# Altium footprint library SOT89.PcbLib: 1 footprints
Each footprint in its own frame and in the unit in brackets; x right, y up, seen from the top. Pads: shape width x height; smd on the part's side, far side on the other; paste and mask are expansions set on the pad; w line width, h text height; cw(c..) or ccw(c..) is an arc to the next point about the centre after c.
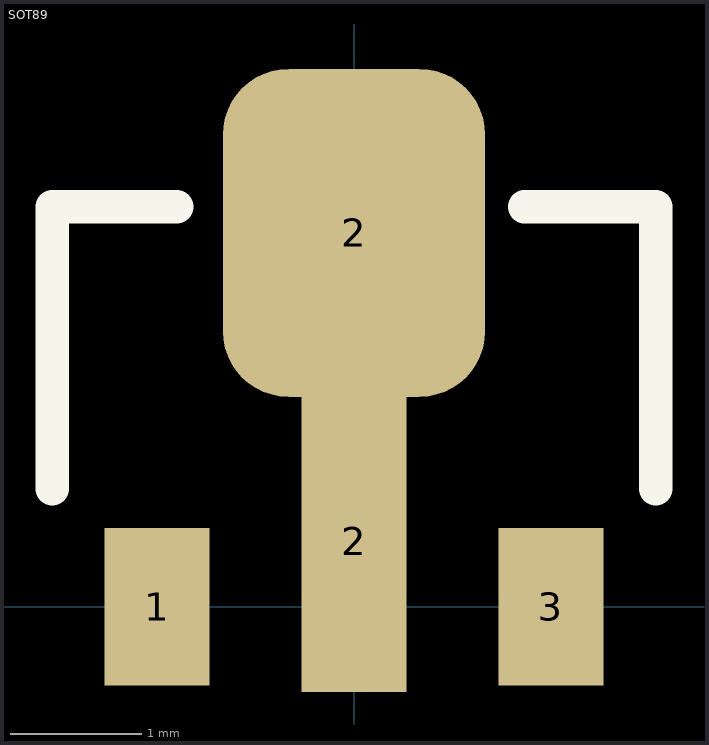
[diagram p0: the footprint, top view; thin cyan lines are the x and y axes]

## SOT89 [mm]
height 1.6
pads (4):
  rect 0.8x1.2 smd: 1(-1.5,0) 3(1.5,0)
  rect 0.8x2.3 smd: 2(0,0.5)
  rrect50% 2x2.5 smd: 2(0,2.85)
Top Overlay:
  lines w0.254: -2.3,0.9 -2.3,3.05 -1.35,3.05 ; 1.3,3.05 2.3,3.05 2.3,0.9
Top Paste:
  rectangle: -0.4,0.6 0.4,1.6
  rectangle: -1,1.6 1,4.1
Top Solder:
  rectangle: -0.5,0.6 0.5,1.6
  rectangle: -1.1,1.5 1.1,4.2
3D body: height 1.51, standoff 0, extent -2.3,-0.55 2.2,3.75